# Altium footprint library VFD-Clock.PCBLIB: 19 footprints (part 2 of 2)
Each footprint in its own frame and in the unit in brackets; x right, y up, seen from the top. Pads: shape width x height; smd on the part's side, far side on the other; paste and mask are expansions set on the pad; w line width, h text height; cw(c..) or ccw(c..) is an arc to the next point about the centre after c.
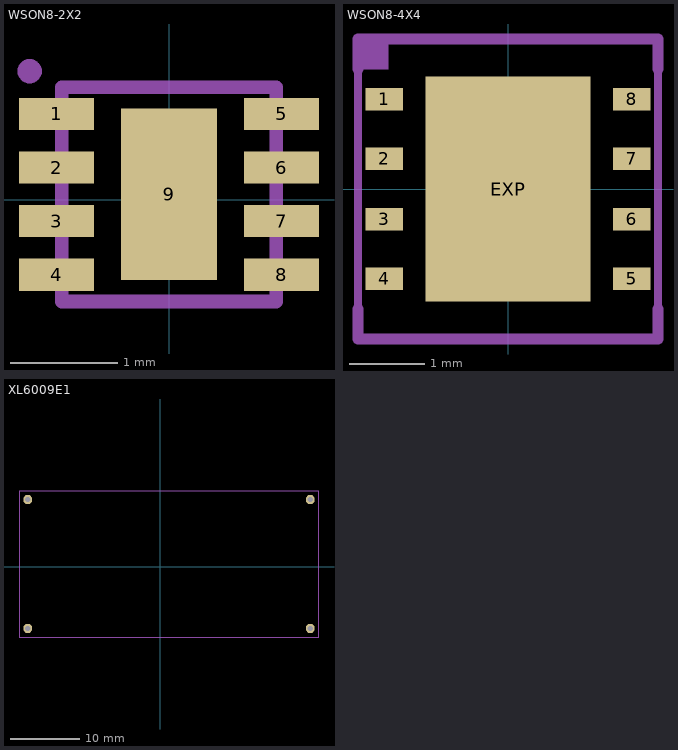
[diagram p1: the footprints below, top view; thin cyan lines are the x and y axes]

## WSON8-2X2 [mil]
pads (9):
  rect 27.56x11.81 smd: 1(-41.34,31.5) 2(-41.34,11.81) 3(-41.34,-7.87) 4(-41.34,-27.56) 5(41.34,31.5) 6(41.34,11.81) 7(41.34,-7.87) 8(41.34,-27.56)
  rect 35.43x62.99 smd: 9(0,1.97)
Top Assembly:
  circle w5: c-51.18,47.24 r1.97
  lines w5: -39.37,-37.4 39.37,-37.4 39.37,41.34 -39.37,41.34 -39.37,-37.4

## WSON8-4X4 [mm]
pads (9):
  rect 0.5x0.3 smd paste+0 mask+0: 1(-1.65,1.2) 2(-1.65,0.4) 3(-1.65,-0.4) 4(-1.65,-1.2) 5(1.65,-1.2) 6(1.65,-0.4) 7(1.65,0.4) 8(1.65,1.2)
  rect 2.2x3 smd paste+0 mask+0: EXP(0,0)
Top Paste:
  region: -0.9,-1.3 -0.9,1.3 0.9,1.3 0.9,-1.3
  region: 1.425,1.075 1.425,1.325 1.875,1.325 1.875,1.075
  region: 1.425,0.275 1.425,0.525 1.875,0.525 1.875,0.275
  region: 1.425,-0.525 1.425,-0.275 1.875,-0.275 1.875,-0.525
  region: 1.425,-1.325 1.425,-1.075 1.875,-1.075 1.875,-1.325
  region: -1.875,-1.325 -1.875,-1.075 -1.425,-1.075 -1.425,-1.325
  region: -1.875,1.075 -1.875,1.325 -1.425,1.325 -1.425,1.075
  region: -1.875,0.275 -1.875,0.525 -1.425,0.525 -1.425,0.275
  region: -1.875,-0.525 -1.875,-0.275 -1.425,-0.275 -1.425,-0.525
Top Solder:
  region: -1.15,-1.55 -1.15,1.55 1.15,1.55 1.15,-1.55
  region: -1.95,-1.4 -1.95,-1 -1.35,-1 -1.35,-1.4
  region: 1.35,1 1.35,1.4 1.95,1.4 1.95,1
  region: 1.35,0.2 1.35,0.6 1.95,0.6 1.95,0.2
  region: 1.35,-0.6 1.35,-0.2 1.95,-0.2 1.95,-0.6
  region: -1.95,1 -1.95,1.4 -1.35,1.4 -1.35,1
  region: -1.95,0.2 -1.95,0.6 -1.35,0.6 -1.35,0.2
  region: -1.95,-0.6 -1.95,-0.2 -1.35,-0.2 -1.35,-0.6
  region: 1.35,-1.4 1.35,-1 1.95,-1 1.95,-1.4
Assembly Top:
  lines w0.102: -2,-2 -2,2 2,2 2,-2 -2,-2
Top Assembly:
  region: -2,1.6 -2,2 -1.6,2 -1.6,1.6
  lines w0.152: -2,-1.6 -2,-2 2,-2 2,-1.6 ; -2,1.6 -2,2 2,2 2,1.6

## XL6009E1 [mil]
pads (4):
  oct 50x50 / inner oct 60x60 / far side oct 50x50 hole 30: P$1(-750,380) P$2(850,380) P$3(850,-350) P$4(-750,-350)
Top Assembly:
  lines w5: -800,-400 -800,430 900,430 900,-400 -800,-400